# Altium footprint library libreriaPcb.PcbLib: 683 footprints (part 32 of 44)
Each footprint in its own frame and in the unit in brackets; x right, y up, seen from the top. Pads: shape width x height; smd on the part's side, far side on the other; paste and mask are expansions set on the pad; w line width, h text height; cw(c..) or ccw(c..) is an arc to the next point about the centre after c.
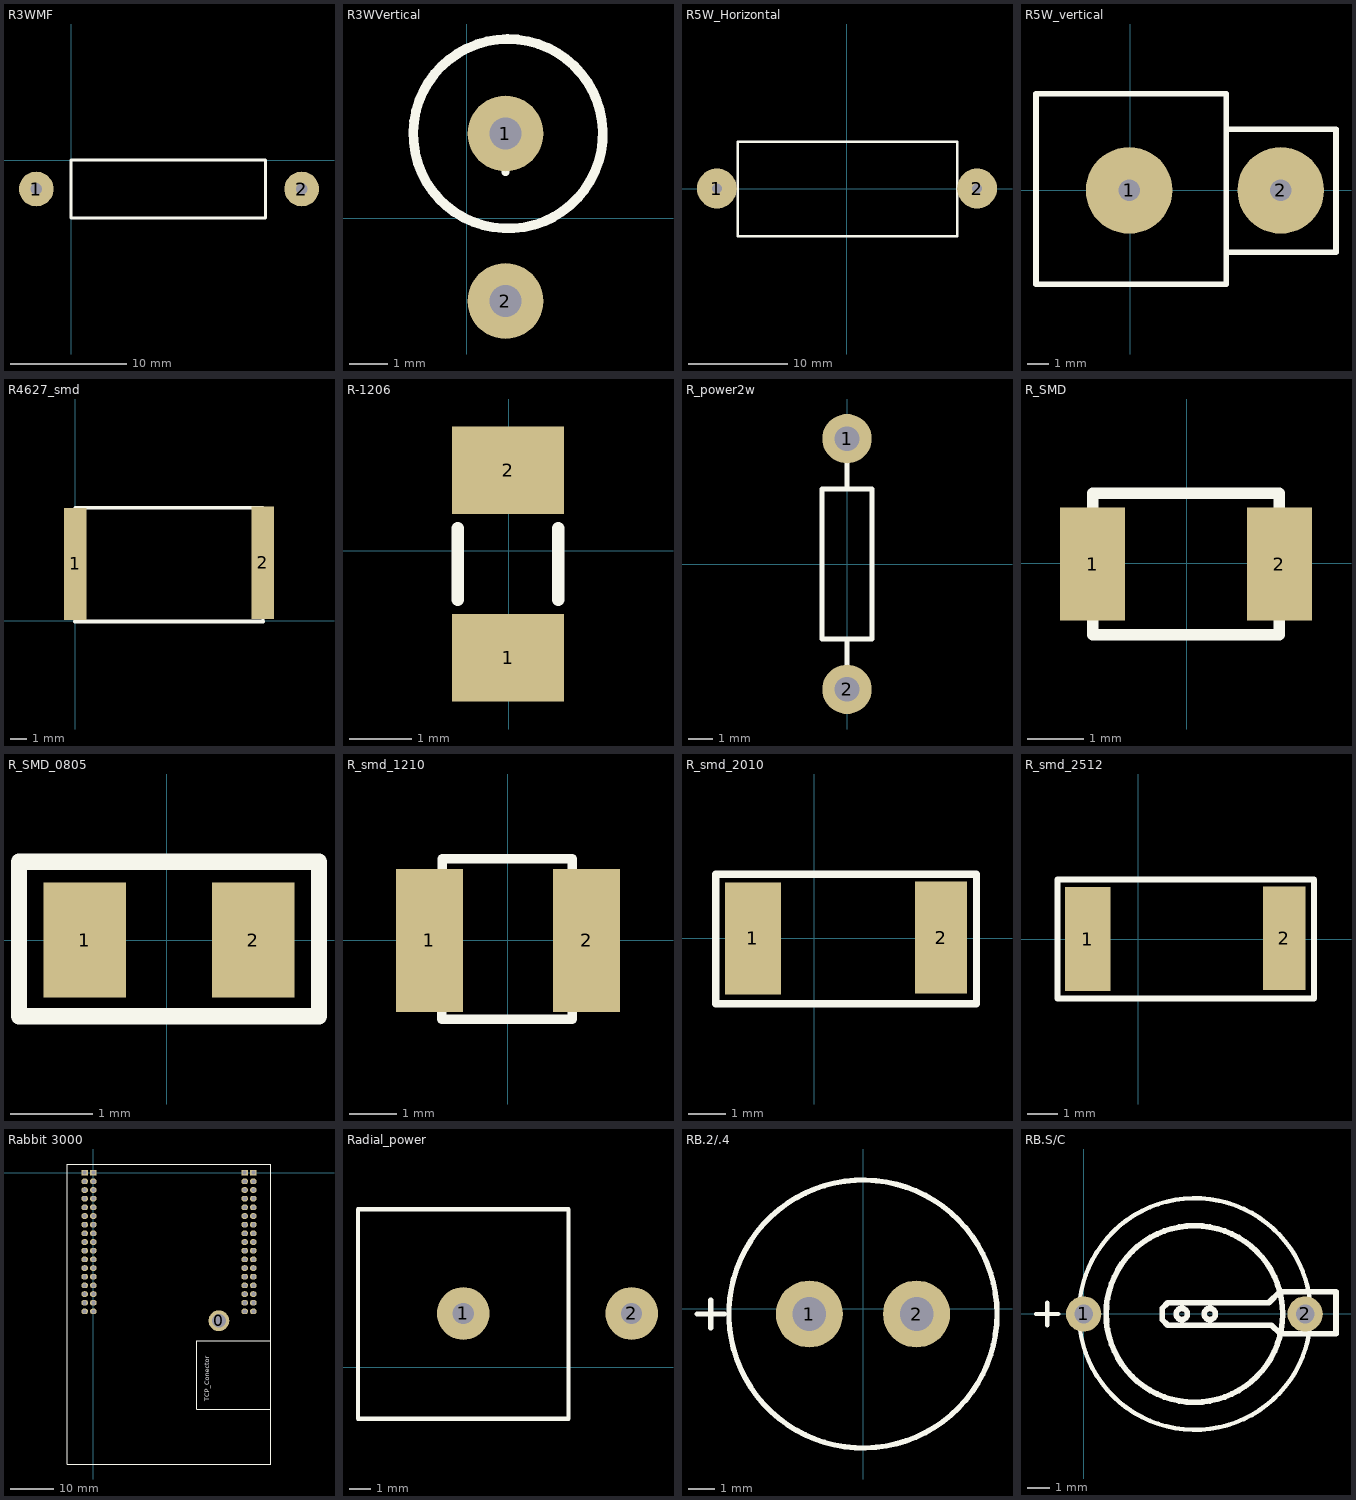
[diagram p31: the footprints below, top view; thin cyan lines are the x and y axes]

## R3WMF [mm]
pads (2):
  round 3 hole 1: 1(-3,-2.5) 2(19.9,-2.5)
Top Overlay:
  lines w0.254: 0,-5 0,0 16.8,0 16.8,-5 0,-5
3D body: height 4.98, standoff 0, extent 0.1,-5.195 16.8,-0.205
3D body: height 3, standoff 2, extent -3,-2.999 0,-2.001
3D body: height 3, standoff 2, extent 16.9,-2.999 19.9,-2.001
3D body: height 2.5, standoff 0, extent 19.404,-2.999 20.4,-2.001
3D body: height 2.5, standoff 0, extent -3.496,-2.999 -2.5,-2.001

## R3WVertical [mm]
pads (2):
  round 2 hole 0.85: 1(1.016,2.235) 2(1.016,-2.184)
Top Overlay:
  lines w0.2: 1.016,1.219 1.016,2.235
  lines w0.254: 3.581,2.311 ccw(c1.083,2.229) 3.581,2.311
3D body: height 7.4, standoff 6, extent 0.616,1.836 1.416,2.635
3D body: height 17.9, standoff 17.1, extent 0.67,-2.612 1.467,2.388
3D body: height 18, standoff 0, extent 0.619,-2.583 1.416,-1.785
3D body: height 15, standoff 0, extent -1.464,-0.26 3.516,4.73

## R5W_Horizontal [mm]
pads (2):
  round 4 hole 1: 1(-13.05,0) 2(13.05,0)
Top Overlay:
  lines w0.254: -10.95,-4.8 -10.95,4.7 11.05,4.7 11.05,-4.8 -10.95,-4.8
3D body: height 11, standoff 1, extent -10.95,-4.8 11.05,4.7
3D body: height 6, standoff 0, extent -14.042,-0.998 -12.05,0.998
3D body: height 6, standoff 0, extent 12.058,-0.998 14.05,0.998
3D body: height 5.99, standoff 4, extent -13.05,-0.996 -10.05,1
3D body: height 5.99, standoff 4, extent 10.15,-0.696 13.15,1.3

## R5W_vertical [mm]
pads (2):
  round 4 hole 1: 1(-0.05,0) 2(6.95,0)
Top Overlay:
  lines w0.254: 4.475,-2.85 9.5,-2.85 9.5,2.825 4.425,2.825 4.425,4.45 ; 4.425,4.45 -4.35,4.45 -4.35,-4.325 4.425,-4.325 4.425,4.45
3D body: height 24, standoff 22, extent -1,-1 8,0.998
3D body: height 24, standoff 0, extent 5.958,-0.998 7.95,0.998
3D body: height 23, standoff 0.2, extent -4.075,-4.25 4.1,4.2

## R4627_smd [mm]
pads (2):
  rect 1.4x7 smd: 1(-0.008,3.556) 2(11.709,3.632)
Top Overlay:
  lines w0.2: -0.008,-0.025 -0.008,7.061 11.709,7.061 11.709,0.034
  lines w0.254: -0.008,-0.025 11.709,-0.025
3D body: height 1, standoff 0, extent -0.226,0.104 0.074,7.059
3D body: height 2, standoff 0, extent 0.011,-0.045 11.709,7.061
3D body: height 1, standoff 0, extent 11.661,0.104 11.961,7.059

## R-1206 [mm]
pads (2):
  rect 1.8x1.4 smd: 1(-0.008,-1.709) 2(-0.008,1.291)
Top Overlay:
  lines w0.2: -0.808,-0.784 -0.808,0.366 ; 0.792,-0.784 0.792,0.366
3D body: height 0.55, standoff 0, extent -0.758,-1.834 0.742,1.291
3D body: height 0.56, standoff 0.55, extent -0.758,-1.209 0.742,0.791

## R_power2w [mm]
pads (2):
  round 2 hole 1: 1(0,5.08) 2(0,-5.08)
Top Overlay:
  lines w0.2: 0,-4.064 0,-3.048 ; 0,3.048 0,4.064 ; -1.016,-3.048 1.016,-3.048 1.016,3.048 -1.016,3.048 -1.016,-3.048
3D body: height 1.1, standoff 0.3, extent -0.419,-5.089 0.381,-3.089
3D body: height 1, standoff 0, extent -0.3,-5.38 0.3,-4.78
3D body: height 1, standoff 0, extent -0.3,4.78 0.3,5.38
3D body: height 1.1, standoff 0.3, extent -0.381,3.099 0.419,5.099
3D body: height 1.8, standoff -0.4, extent -1.075,-2.997 1.125,3.003

## R_SMD [mm]
pads (2):
  rect 1.15x2 smd: 1(-1.66,-0.01) 2(1.64,-0.01)
Top Overlay:
  lines w0.2: -1.66,-1.26 -1.66,-0.01 -1.66,1.24 1.64,1.24 1.64,-1.26 -1.66,-1.26
3D body: height 1, standoff 0, extent -1.3,-0.8 1.3,0.8
3D body: height 1, standoff 0, extent -1.6,-0.8 -1.3,0.8
3D body: height 1, standoff 0, extent 1.3,-0.8 1.6,0.8

## R_SMD_0805 [mm]
pads (2):
  rect 1x1.4 smd: 1(-1,0) 2(1.05,0)
Top Overlay:
  lines w0.2: -1.8,-0.925 -1.8,0.95 1.85,0.95 1.85,-0.925 -1.8,-0.925
3D body: height 1, standoff 0, extent 0.75,-0.612 1.05,0.613
3D body: height 1, standoff 0, extent -1,-0.612 -0.7,0.613
3D body: height 1, standoff 0, extent -0.7,-0.612 0.75,0.613

## R_smd_1210 [mm]
pads (2):
  rect 1.4x3 smd: 1(-1.65,0) 2(1.65,0)
Top Overlay:
  lines w0.2: -1.39,-1.66 1.35,-1.65 1.35,1.72 -1.38,1.72 -1.38,0 -1.39,-1.66
3D body: height 1, standoff 0, extent 1.3,-1.54 1.6,1.59
3D body: height 1, standoff 0, extent -1.6,-1.54 -1.3,1.59
3D body: height 1, standoff 0, extent -1.3,-1.54 1.3,1.59

## R_smd_2010 [mm]
pads (2):
  rect 1.5x3 smd: 1(-1.65,0)
  rect 1.4x3 smd: 2(3.4,0.025)
Top Overlay:
  lines w0.2: -2.65,-1.75 -2.65,1.72 4.35,1.72 4.35,-1.75 -2.65,-1.75
3D body: height 1, standoff 0, extent -0.95,-1.25 2.75,1.25
3D body: height 1, standoff 0, extent -1.6,-1.25 -0.95,1.25
3D body: height 1, standoff 0, extent 2.75,-1.25 3.4,1.25

## R_smd_2512 [mm]
pads (2):
  rect 1.5x3.4 smd: 1(-1.65,0)
  rect 1.4x3.4 smd: 2(4.8,0.025)
Top Overlay:
  lines w0.2: -2.65,-1.95 -2.65,1.95 5.775,1.95 5.775,-1.95 -2.65,-1.95
3D body: height 1, standoff 0, extent -0.95,-1.54 4.15,1.59
3D body: height 1, standoff 0, extent -1.6,-1.54 -0.95,1.59
3D body: height 1, standoff 0, extent 4.15,-1.54 4.8,1.59

## Rabbit 3000 [mm]
pads (69):
  round 4.8 hole 3.2: 0(28.95,-34.15)
  rect 1.55x1.3 hole 0.95: 1(0,0) 1_B(36.9,0) 2(-2,0) 2_B(34.9,0)
  oval 1.55x1.3 hole 0.95: 3(0,-2) 3_B(36.9,-2) 4(-2,-2) 4_B(34.91,-2) 5(0,-4) 5_B(36.9,-4) 6(-2,-4.01) 6_B(34.91,-4) 7(0,-6) 7_B(36.9,-6) 8(-2,-6) 8_B(34.91,-6) 9(0,-8) 9_B(36.9,-8) 10(-2,-8) 10_B(34.91,-8) 11(0,-10) 11_B(36.9,-10) 12(-2,-10) 12_B(34.91,-10) 13(0,-12) 13_B(36.9,-12) 14(-2,-12) 14_B(34.91,-12) 15(0,-14) 15_B(36.9,-14) 16(-2,-14) 16_B(34.91,-14) 17(0,-16) 17_B(36.9,-16) 18(-2,-16) 18_B(34.91,-16) 19(0,-18) 19_B(36.9,-18) 20(-2,-18) 20_B(34.91,-18) 21(0,-20) 21_B(36.9,-20) 22(-2,-20) 22_B(34.91,-20) 23(0,-22) 23_B(36.9,-22) 24(-2,-22) 24_B(34.91,-22) 25(0,-24) 25_B(36.9,-24) 26(-2,-24) 26_B(34.91,-24) 27(0,-26) 27_B(36.9,-26) 28(-2,-26) 28_B(34.91,-26) 29(0,-28) 29_B(36.9,-28) 30(-2,-28) 30_B(34.91,-28) 31(0,-30) 31_B(36.9,-30) 32(-2,-30) 32_B(34.91,-30) 33(0,-32) 33_B(36.9,-32) 34(-2,-32) 34_B(34.91,-32)
Top Overlay:
  lines w0.254: 40.9,-54.6 23.9,-54.6 23.9,-38.8 40.9,-38.8 ; -6,-67.2 -6,2 40.9,2 40.9,-67.2 -6,-67.2
  text "TCP_Conector" at 26.78,-52.74 h1.1

## Radial_power [mm]
pads (2):
  round 2.5 hole 1: 1(12.45,2.55) 2(20.45,2.55)
Top Overlay:
  lines w0.2: 7.45,-2.45 7.45,7.5 17.45,7.5 17.45,-2.45 7.475,-2.45
3D body: height 30, standoff 0, extent 7.58,-2.35 17.36,7.42

## RB.2/.4 [mm]
pads (2):
  round 2.5 hole 1.254: 1(-2.004,-0.187) 2(1.996,-0.187)
Top Overlay:
  circle w0.2: c-0.004,-0.187 r5
  lines w0.2: -6.195,-0.187 -5.179,-0.187 ; -5.687,-0.695 -5.687,0.321
3D body: height 0, standoff -1, extent -2.401,-0.586 -1.604,0.212
3D body: height 0, standoff -1, extent 1.599,-0.586 2.396,0.212
3D body: height 12.2, standoff 0.2, extent -3.972,-4.179 3.996,3.805
3D body: height 12.4, standoff 12, extent -2.992,-3.212 2.984,2.776
3D body: height 5, standoff 2, extent 3.884,-0.562 4.009,-0.062
3D body: height 12, standoff 0.2, extent 3.421,-1.537 3.996,1.188
3D body: height 10, standoff 7, extent 3.884,-0.562 4.009,-0.062

## RB.S/C [mm]
height 5.5
pads (2):
  round 1.6 hole 0.85: 1(0,0) 2(10.033,0)
Top Overlay:
  circle w0.254: c5.715,0 r0.254
  circle w0.254: c4.445,0 r0.254
  circle w0.254: c5.017,0 r4
  circle w0.2: c5.037,0 r5.25
  lines w0.2: -2.159,0 -1.143,0 ; -1.651,-0.508 -1.651,0.508
  lines w0.254: 3.556,-0.254 3.556,0.254 3.81,0.508 8.382,0.508 8.89,1.016 10.795,1.016 11.43,1.016 11.43,-0.889 8.89,-0.889 8.509,-0.508 3.81,-0.508 3.556,-0.254
3D body: height 4.45, standoff 0.2, extent -0.56,-5.24 9.899,5.24
3D body: height 4.75, standoff 4.25, extent 1.048,-3.992 9.017,3.992
3D body: height 4.8, standoff 4.7, extent 3.575,-0.5 10.05,0.5
3D body: height 4.8, standoff -1, extent 9.636,-0.399 10.433,0.399
3D body: height 0.2, standoff -1, extent -0.397,-0.399 0.4,0.399